# EAGLE library part M38C/1X(64PIN) (library renesas_mcu)
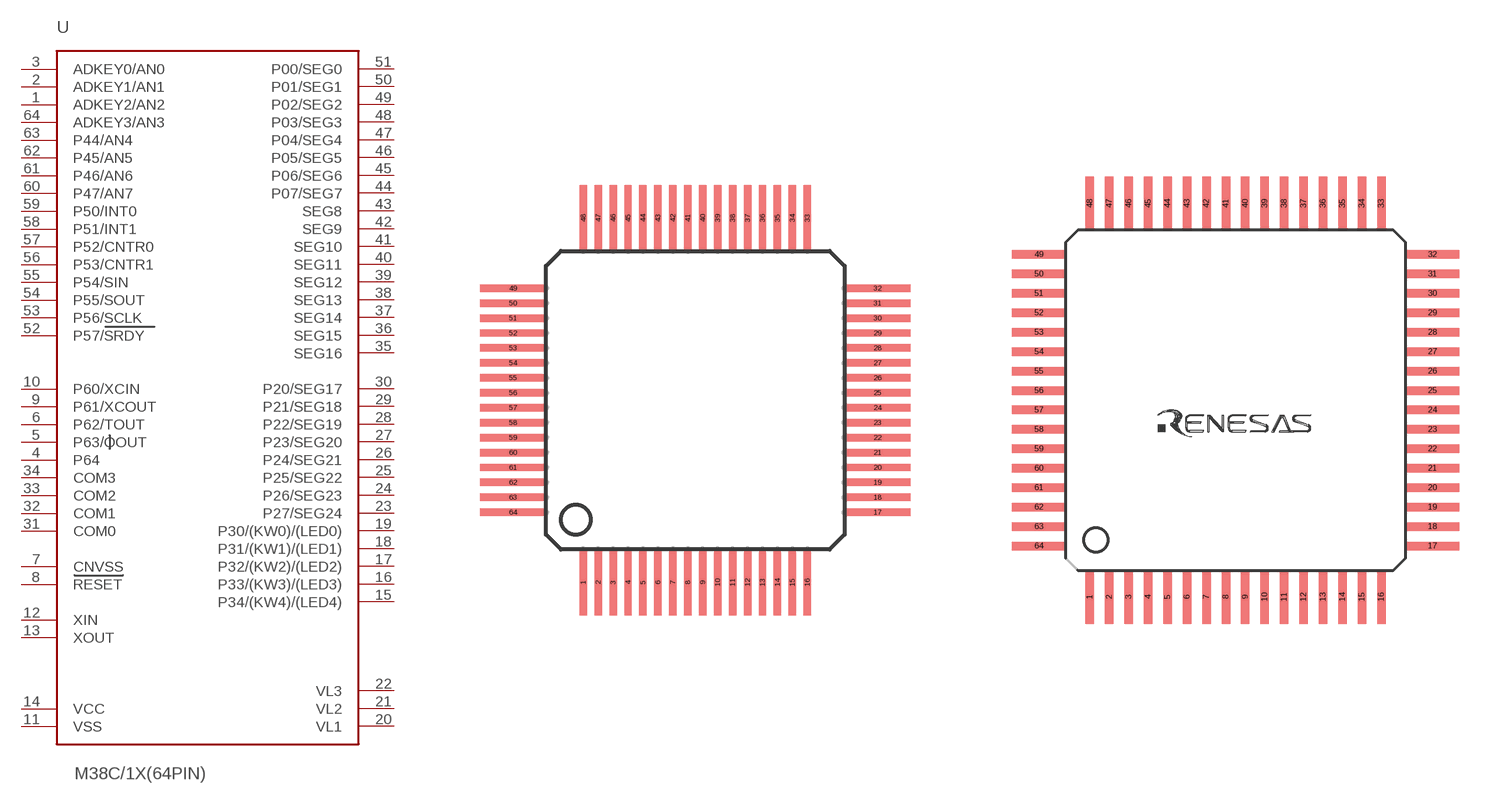
[diagram p17: symbol with the pads of 64P6Q-A; footprints 64P6Q-A, 64P6U-A]

Designator prefix -

## M38C/1X(64PIN)64P6Q-A  [64P6Q-A]
1  ADKEY2/AN2  in
2  ADKEY1/AN1  in
3  ADKEY0/AN0  in
4  P64
5  P63/OOUT
6  P62/TOUT
7  CNVSS  in
8  RESET  in
9  P61/XCOUT
10  P60/XCIN
11  VSS  pwr
12  XIN
13  XOUT  out
14  VCC  pwr
15  P34/(KW4)/(LED4)
16  P33/(KW3)/(LED3)
17  P32/(KW2)/(LED2)
18  P31/(KW1)/(LED1)
19  P30/(KW0)/(LED0)
20  VL1  in
21  VL2  in
22  VL3  in
23  P27/SEG24
24  P26/SEG23
25  P25/SEG22
26  P24/SEG21
27  P23/SEG20
28  P22/SEG19
29  P21/SEG18
30  P20/SEG17
31  COM0  out
32  COM1  out
33  COM2  out
34  COM3  out
35  SEG16  out
36  SEG15  out
37  SEG14  out
38  SEG13  out
39  SEG12  out
40  SEG11  out
41  SEG10  out
42  SEG9  out
43  SEG8  out
44  P07/SEG7
45  P06/SEG6
46  P05/SEG5
47  P04/SEG4
48  P03/SEG3
49  P02/SEG2
50  P01/SEG1
51  P00/SEG0
52  P57/SRDY
53  P56/SCLK
54  P55/SOUT
55  P54/SIN
56  P53/CNTR1
57  P52/CNTR0
58  P51/INT1
59  P50/INT0
60  P47/AN7
61  P46/AN6
62  P45/AN5
63  P44/AN4
64  ADKEY3/AN3  in

## M38C/1X(64PIN)64P6U-A  [64P6U-A]
Pads as for 64P6Q-A

## Footprint 64P6Q-A (pad centres in mm)
smd 0.25 x 2.2: 1 -3.75,-6.1; 2 -3.25,-6.1; 3 -2.75,-6.1; 4 -2.25,-6.1; 5 -1.75,-6.1; 6 -1.25,-6.1; 7 -0.75,-6.1; 8 -0.25,-6.1; 9 0.25,-6.1; 10 0.75,-6.1; 11 1.25,-6.1; 12 1.75,-6.1; 13 2.25,-6.1; 14 2.75,-6.1; 15 3.25,-6.1; 16 3.75,-6.1; 33 3.75,6.1; 34 3.25,6.1; 35 2.75,6.1; 36 2.25,6.1; 37 1.75,6.1; 38 1.25,6.1; 39 0.75,6.1; 40 0.25,6.1; 41 -0.25,6.1; 42 -0.75,6.1; 43 -1.25,6.1; 44 -1.75,6.1; 45 -2.25,6.1; 46 -2.75,6.1; 47 -3.25,6.1; 48 -3.75,6.1
smd 2.2 x 0.25: 17 6.1,-3.75; 18 6.1,-3.25; 19 6.1,-2.75; 20 6.1,-2.25; 21 6.1,-1.75; 22 6.1,-1.25; 23 6.1,-0.75; 24 6.1,-0.25; 25 6.1,0.25; 26 6.1,0.75; 27 6.1,1.25; 28 6.1,1.75; 29 6.1,2.25; 30 6.1,2.75; 31 6.1,3.25; 32 6.1,3.75; 49 -6.1,3.75; 50 -6.1,3.25; 51 -6.1,2.75; 52 -6.1,2.25; 53 -6.1,1.75; 54 -6.1,1.25; 55 -6.1,0.75; 56 -6.1,0.25; 57 -6.1,-0.25; 58 -6.1,-0.75; 59 -6.1,-1.25; 60 -6.1,-1.75; 61 -6.1,-2.25; 62 -6.1,-2.75; 63 -6.1,-3.25; 64 -6.1,-3.75

## Footprint 64P6U-A (pad centres in mm)
smd 0.35 x 2.2: 1 -6,-8.1; 2 -5.2,-8.1; 3 -4.4,-8.1; 4 -3.6,-8.1; 5 -2.8,-8.1; 6 -2,-8.1; 7 -1.2,-8.1; 8 -0.4,-8.1; 9 0.4,-8.1; 10 1.2,-8.1; 11 2,-8.1; 12 2.8,-8.1; 13 3.6,-8.1; 14 4.4,-8.1; 15 5.2,-8.1; 16 6,-8.1; 33 6,8.1; 34 5.2,8.1; 35 4.4,8.1; 36 3.6,8.1; 37 2.8,8.1; 38 2,8.1; 39 1.2,8.1; 40 0.4,8.1; 41 -0.4,8.1; 42 -1.2,8.1; 43 -2,8.1; 44 -2.8,8.1; 45 -3.6,8.1; 46 -4.4,8.1; 47 -5.2,8.1; 48 -6,8.1
smd 2.2 x 0.35: 17 8.1,-6; 18 8.1,-5.2; 19 8.1,-4.4; 20 8.1,-3.6; 21 8.1,-2.8; 22 8.1,-2; 23 8.1,-1.2; 24 8.1,-0.4; 25 8.1,0.4; 26 8.1,1.2; 27 8.1,2; 28 8.1,2.8; 29 8.1,3.6; 30 8.1,4.4; 31 8.1,5.2; 32 8.1,6; 49 -8.1,6; 50 -8.1,5.2; 51 -8.1,4.4; 52 -8.1,3.6; 53 -8.1,2.8; 54 -8.1,2; 55 -8.1,1.2; 56 -8.1,0.4; 57 -8.1,-0.4; 58 -8.1,-1.2; 59 -8.1,-2; 60 -8.1,-2.8; 61 -8.1,-3.6; 62 -8.1,-4.4; 63 -8.1,-5.2; 64 -8.1,-6